# EAGLE library part DF40C-90DS-0.4V(51) (library iv11)
Stacking Board Connector, DF40 Series, Receptacle, 0.4 mm, 90, Surface Mount, Gold Plated Contacts
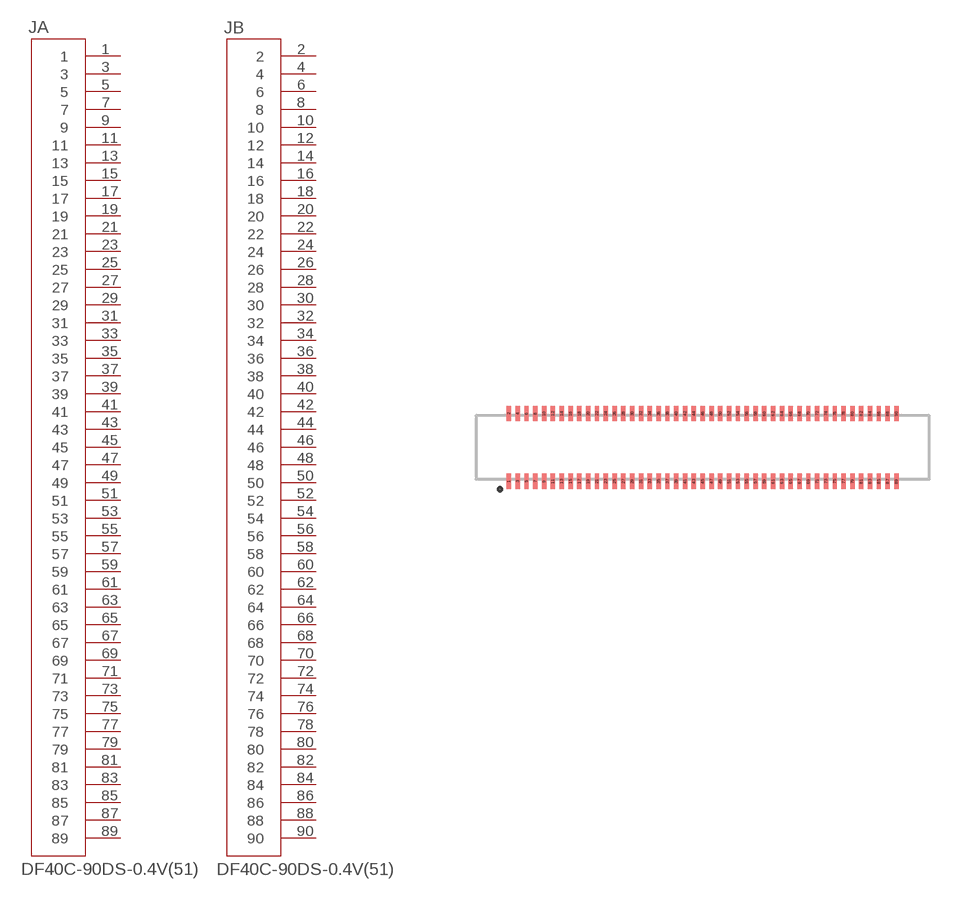
[diagram p0: symbol with the pads of HIROSE_DF40C-90DS-0.4V(51); footprint HIROSE_DF40C-90DS-0.4V(51)]

Designator prefix J; gates A=DF40C-90DS-0.4V(51)_SECTION1 B=DF40C-90DS-0.4V(51)_SECTION2

## DF40C-90DS-0.4V(51) (AVAILABILITY: Good; DESCRIPTION: Stacking Board Connector, DF40 Series, Receptacle, 0.4 mm, 90, Surface Mount, Gold Plated Contacts; MF: Hirose; MP: DF40C-90DS-0.4V_51_; PACKAGE: None; PRICE: 1.21 USD)  [HIROSE_DF40C-90DS-0.4V(51)]
1  A:1  pas
2  B:2  pas
3  A:3  pas
4  B:4  pas
5  A:5  pas
6  B:6  pas
7  A:7  pas
8  B:8  pas
9  A:9  pas
10  B:10  pas
11  A:11  pas
12  B:12  pas
13  A:13  pas
14  B:14  pas
15  A:15  pas
16  B:16  pas
17  A:17  pas
18  B:18  pas
19  A:19  pas
20  B:20  pas
21  A:21  pas
22  B:22  pas
23  A:23  pas
24  B:24  pas
25  A:25  pas
26  B:26  pas
27  A:27  pas
28  B:28  pas
29  A:29  pas
30  B:30  pas
31  A:31  pas
32  B:32  pas
33  A:33  pas
34  B:34  pas
35  A:35  pas
36  B:36  pas
37  A:37  pas
38  B:38  pas
39  A:39  pas
40  B:40  pas
41  A:41  pas
42  B:42  pas
43  A:43  pas
44  B:44  pas
45  A:45  pas
46  B:46  pas
47  A:47  pas
48  B:48  pas
49  A:49  pas
50  B:50  pas
51  A:51  pas
52  B:52  pas
53  A:53  pas
54  B:54  pas
55  A:55  pas
56  B:56  pas
57  A:57  pas
58  B:58  pas
59  A:59  pas
60  B:60  pas
61  A:61  pas
62  B:62  pas
63  A:63  pas
64  B:64  pas
65  A:65  pas
66  B:66  pas
67  A:67  pas
68  B:68  pas
69  A:69  pas
70  B:70  pas
71  A:71  pas
72  B:72  pas
73  A:73  pas
74  B:74  pas
75  A:75  pas
76  B:76  pas
77  A:77  pas
78  B:78  pas
79  A:79  pas
80  B:80  pas
81  A:81  pas
82  B:82  pas
83  A:83  pas
84  B:84  pas
85  A:85  pas
86  B:86  pas
87  A:87  pas
88  B:88  pas
89  A:89  pas
90  B:90  pas

## Footprint HIROSE_DF40C-90DS-0.4V(51) (pad centres in mm)
smd 0.2 x 0.7: 1 -8.8,-1.54; 2 -8.8,1.54; 3 -8.4,-1.54; 4 -8.4,1.54; 5 -8,-1.54; 6 -8,1.54; 7 -7.6,-1.54; 8 -7.6,1.54; 9 -7.2,-1.54; 10 -7.2,1.54; 11 -6.8,-1.54; 12 -6.8,1.54; 13 -6.4,-1.54; 14 -6.4,1.54; 15 -6,-1.54; 16 -6,1.54; 17 -5.6,-1.54; 18 -5.6,1.54; 19 -5.2,-1.54; 20 -5.2,1.54; 21 -4.8,-1.54; 22 -4.8,1.54; 23 -4.4,-1.54; 24 -4.4,1.54; 25 -4,-1.54; 26 -4,1.54; 27 -3.6,-1.54; 28 -3.6,1.54; 29 -3.2,-1.54; 30 -3.2,1.54; 31 -2.8,-1.54; 32 -2.8,1.54; 33 -2.4,-1.54; 34 -2.4,1.54; 35 -2,-1.54; 36 -2,1.54; 37 -1.6,-1.54; 38 -1.6,1.54; 39 -1.2,-1.54; 40 -1.2,1.54; 41 -0.8,-1.54; 42 -0.8,1.54; 43 -0.4,-1.54; 44 -0.4,1.54; 45 0,-1.54; 46 0,1.54; 47 0.4,-1.54; 48 0.4,1.54; 49 0.8,-1.54; 50 0.8,1.54; 51 1.2,-1.54; 52 1.2,1.54; 53 1.6,-1.54; 54 1.6,1.54; 55 2,-1.54; 56 2,1.54; 57 2.4,-1.54; 58 2.4,1.54; 59 2.8,-1.54; 60 2.8,1.54; 61 3.2,-1.54; 62 3.2,1.54; 63 3.6,-1.54; 64 3.6,1.54; 65 4,-1.54; 66 4,1.54; 67 4.4,-1.54; 68 4.4,1.54; 69 4.8,-1.54; 70 4.8,1.54; 71 5.2,-1.54; 72 5.2,1.54; 73 5.6,-1.54; 74 5.6,1.54; 75 6,-1.54; 76 6,1.54; 77 6.4,-1.54; 78 6.4,1.54; 79 6.8,-1.54; 80 6.8,1.54; 81 7.2,-1.54; 82 7.2,1.54; 83 7.6,-1.54; 84 7.6,1.54; 85 8,-1.54; 86 8,1.54; 87 8.4,-1.54; 88 8.4,1.54; 89 8.8,-1.54; 90 8.8,1.54